# Altium footprint library PTA6043.PcbLib: 1 footprints
Each footprint in its own frame and in the unit in brackets; x right, y up, seen from the top. Pads: shape width x height; smd on the part's side, far side on the other; paste and mask are expansions set on the pad; w line width, h text height; cw(c..) or ccw(c..) is an arc to the next point about the centre after c.
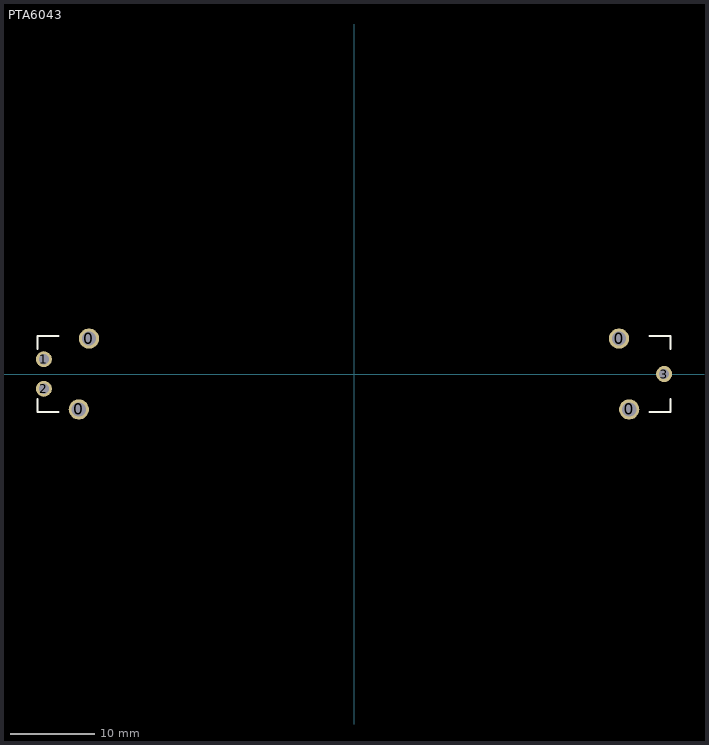
[diagram p0: the footprint, top view; thin cyan lines are the x and y axes]

## PTA6043 [mm] "PTA6043 Single Gang Potentiometer"
pads (7):
  round 2.4 hole 1.7: 0(-32.6,-4.2) 0(-31.4,4.2) 0(31.4,4.2) 0(32.6,-4.2)
  round 1.9 hole 1.194: 1(-36.75,1.75) 2(-36.75,-1.75) 3(36.75,0)
Top Overlay:
  lines w0.254: -37.5,-3 -37.5,-4.5 -35,-4.5 ; -37.5,3 -37.5,4.5 -35,4.5 ; 35,-4.5 37.5,-4.5 37.5,-3 ; 35,4.5 37.5,4.5 37.5,3